# Altium footprint library Components - 30.03.22 - 08.27.PcbLib: 1 footprints
Each footprint in its own frame and in the unit in brackets; x right, y up, seen from the top. Pads: shape width x height; smd on the part's side, far side on the other; paste and mask are expansions set on the pad; w line width, h text height; cw(c..) or ccw(c..) is an arc to the next point about the centre after c.
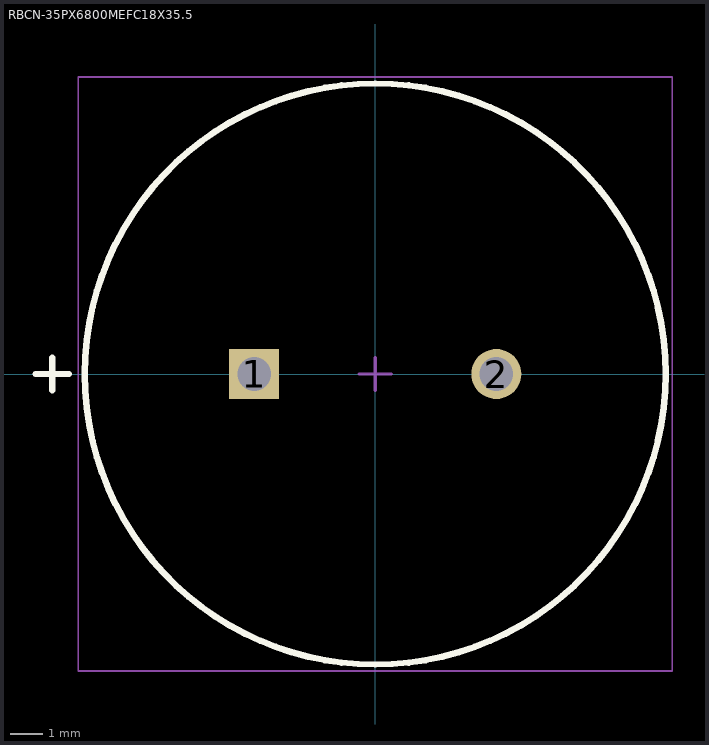
[diagram p0: the footprint, top view; thin cyan lines are the x and y axes]

## RBCN-35PX6800MEFC18X35.5 [mm] "THD, 2-Leads, Dia 18mm"
height 37.5
pads (2):
  rect 1.55x1.55 hole 1.05: 1(-3.75,0)
  round 1.55 hole 1.05: 2(3.75,0)
Top Overlay:
  circle w0.2: c0,0 r9
  lines w0.2: -10.516,0 -9.5,0 ; -10.008,-0.508 -10.008,-0.254 -10.008,0.254 -10.008,0.508
Mechanical 13:
  circle w0.1: c0,0 r9
Mechanical 15:
  lines w0.05: -9.2,-9.2 9.2,-9.2 9.2,9.2 -9.2,9.2 -9.2,-9.2
  lines w0.1: -0.5,0 0.5,0 ; 0,-0.5 0,0.5
3D body "RBCN-35PX6800MEFC18X35.5.stp": height 37.51, standoff -4, extent -9,-9 9.01,9